# EAGLE library part ULN2803 (library Bauteile)
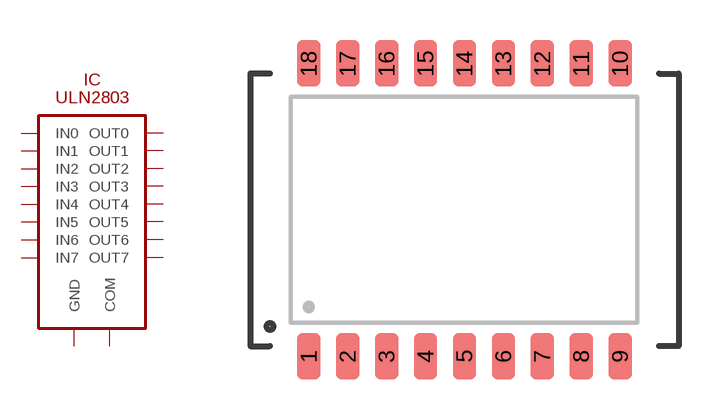
[diagram p1: symbol with the pads of SO18; footprint SO18]

Designator prefix IC

## ULN2803(SO18)  [SO18]
1  IN0
2  IN1
3  IN2
4  IN3
5  IN4
6  IN5
7  IN6
8  IN7
9  GND
10  COM
11  OUT7
12  OUT6
13  OUT5
14  OUT4
15  OUT3
16  OUT2
17  OUT1
18  OUT0

## Footprint SO18 (pad centres in mm)
smd 0.762 x 1.524: 1 -5.08,-4.775; 2 -3.81,-4.775; 3 -2.54,-4.775; 4 -1.27,-4.775; 5 0,-4.775; 6 1.27,-4.775; 7 2.54,-4.775; 8 3.81,-4.775; 9 5.08,-4.775; 10 5.08,4.775; 11 3.81,4.775; 12 2.54,4.775; 13 1.27,4.775; 14 0,4.775; 15 -1.27,4.775; 16 -2.54,4.775; 17 -3.81,4.775; 18 -5.08,4.775